# EAGLE library part EPF10K100-P208 (library altera)
EPF10K100 FLEX 10K family
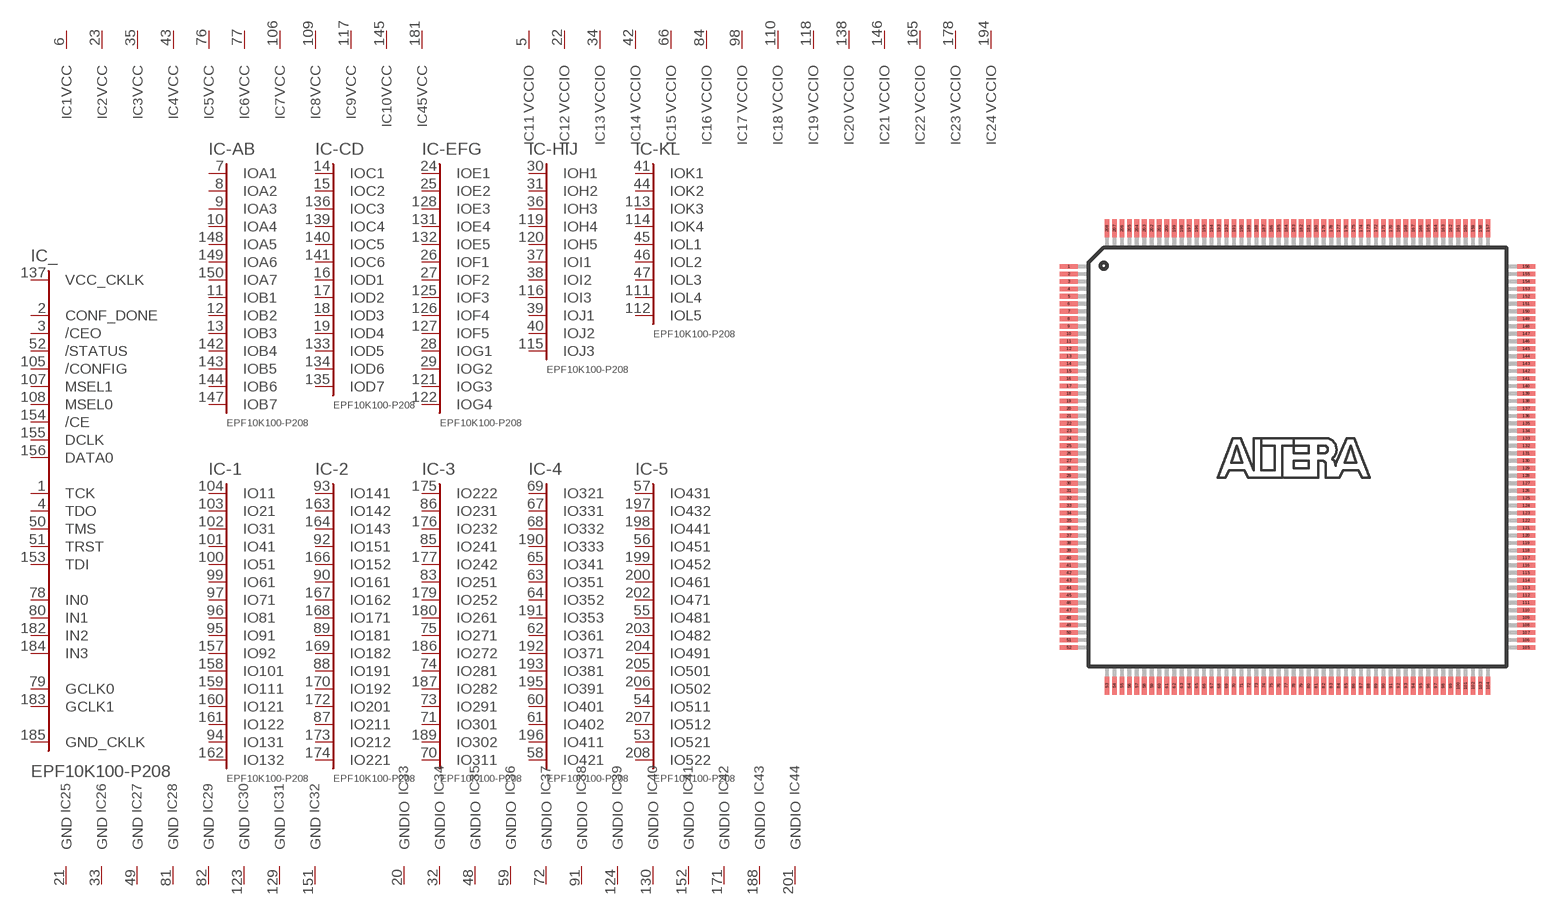
[diagram p43: symbol with the pads of PQFP208; footprint PQFP208]

Designator prefix IC; gates _=100P208C -AB=A7B7 -CD=C6D7 -EFG=E4F4G4 -HIJ=H5I3J3 -KL=K4L5 -1=132-208 -2=221-208 -3=311-208 -4=421-208 -5=522-208 1=VCCINT 2=VCCINT 3=VCCINT 4=VCCINT 5=VCCINT 6=VCCINT 7=VCCINT 8=VCCINT 9=VCCINT 10=VCCINT 11=VCCIO 12=VCCIO 13=VCCIO 14=VCCIO 15=VCCIO 16=VCCIO 17=VCCIO 18=VCCIO 19=VCCIO 20=VCCIO 21=VCCIO 22=VCCIO 23=VCCIO 24=VCCIO 25=GNDINT 26=GNDINT 27=GNDINT 28=GNDINT 29=GNDINT 30=GNDINT 31=GNDINT 32=GNDINT 33=GNDIO 34=GNDIO 35=GNDIO 36=GNDIO 37=GNDIO 38=GNDIO 39=GNDIO 40=GNDIO 41=GNDIO 42=GNDIO 43=GNDIO 44=GNDIO 45=VCCINT

## EPF10K100-P208  [PQFP208]
1  _:TCK
2  _:CONF_DONE  in
3  _:/CEO  in
4  _:TDO
5  11:VCCIO  pwr
6  1:VCC  pwr
7  -AB:IOA1
8  -AB:IOA2
9  -AB:IOA3
10  -AB:IOA4
11  -AB:IOB1
12  -AB:IOB2
13  -AB:IOB3
14  -CD:IOC1
15  -CD:IOC2
16  -CD:IOD1
17  -CD:IOD2
18  -CD:IOD3
19  -CD:IOD4
20  33:GNDIO  pwr
21  25:GND  pwr
22  12:VCCIO  pwr
23  2:VCC  pwr
24  -EFG:IOE1
25  -EFG:IOE2
26  -EFG:IOF1
27  -EFG:IOF2
28  -EFG:IOG1
29  -EFG:IOG2
30  -HIJ:IOH1
31  -HIJ:IOH2
32  34:GNDIO  pwr
33  26:GND  pwr
34  13:VCCIO  pwr
35  3:VCC  pwr
36  -HIJ:IOH3
37  -HIJ:IOI1
38  -HIJ:IOI2
39  -HIJ:IOJ1
40  -HIJ:IOJ2
41  -KL:IOK1
42  14:VCCIO  pwr
43  4:VCC  pwr
44  -KL:IOK2
45  -KL:IOL1
46  -KL:IOL2
47  -KL:IOL3
48  35:GNDIO  pwr
49  27:GND  pwr
50  _:TMS
51  _:TRST
52  _:/STATUS  in
53  -5:IO521
54  -5:IO511
55  -5:IO481
56  -5:IO451
57  -5:IO431
58  -4:IO421
59  36:GNDIO  pwr
60  -4:IO401
61  -4:IO402
62  -4:IO361
63  -4:IO351
64  -4:IO352
65  -4:IO341
66  15:VCCIO  pwr
67  -4:IO331
68  -4:IO332
69  -4:IO321
70  -3:IO311
71  -3:IO301
72  37:GNDIO  pwr
73  -3:IO291
74  -3:IO281
75  -3:IO271
76  5:VCC  pwr
77  6:VCC  pwr
78  _:IN0  in
79  _:GCLK0  in
80  _:IN1  in
81  28:GND  pwr
82  29:GND  pwr
83  -3:IO251
84  16:VCCIO  pwr
85  -3:IO241
86  -3:IO231
87  -2:IO211
88  -2:IO191
89  -2:IO181
90  -2:IO161
91  38:GNDIO  pwr
92  -2:IO151
93  -2:IO141
94  -1:IO131
95  -1:IO91
96  -1:IO81
97  -1:IO71
98  17:VCCIO  pwr
99  -1:IO61
100  -1:IO51
101  -1:IO41
102  -1:IO31
103  -1:IO21
104  -1:IO11
105  _:/CONFIG  in
106  7:VCC  pwr
107  _:MSEL1  in
108  _:MSEL0  in
109  8:VCC  pwr
110  18:VCCIO  pwr
111  -KL:IOL4
112  -KL:IOL5
113  -KL:IOK3
114  -KL:IOK4
115  -HIJ:IOJ3
116  -HIJ:IOI3
117  9:VCC  pwr
118  19:VCCIO  pwr
119  -HIJ:IOH4
120  -HIJ:IOH5
121  -EFG:IOG3
122  -EFG:IOG4
123  30:GND  pwr
124  39:GNDIO  pwr
125  -EFG:IOF3
126  -EFG:IOF4
127  -EFG:IOF5
128  -EFG:IOE3
129  31:GND  pwr
130  40:GNDIO  pwr
131  -EFG:IOE4
132  -EFG:IOE5
133  -CD:IOD5
134  -CD:IOD6
135  -CD:IOD7
136  -CD:IOC3
137  _:VCC_CKLK  pas
138  20:VCCIO  pwr
139  -CD:IOC4
140  -CD:IOC5
141  -CD:IOC6
142  -AB:IOB4
143  -AB:IOB5
144  -AB:IOB6
145  10:VCC  pwr
146  21:VCCIO  pwr
147  -AB:IOB7
148  -AB:IOA5
149  -AB:IOA6
150  -AB:IOA7
151  32:GND  pwr
152  41:GNDIO  pwr
153  _:TDI
154  _:/CE  in
155  _:DCLK  in
156  _:DATA0  in
157  -1:IO92
158  -1:IO101
159  -1:IO111
160  -1:IO121
161  -1:IO122
162  -1:IO132
163  -2:IO142
164  -2:IO143
165  22:VCCIO  pwr
166  -2:IO152
167  -2:IO162
168  -2:IO171
169  -2:IO182
170  -2:IO192
171  42:GNDIO  pwr
172  -2:IO201
173  -2:IO212
174  -2:IO221
175  -3:IO222
176  -3:IO232
177  -3:IO242
178  23:VCCIO  pwr
179  -3:IO252
180  -3:IO261
181  45:VCC  pwr
182  _:IN2  in
183  _:GCLK1  in
184  _:IN3  in
185  _:GND_CKLK  pas
186  -3:IO272
187  -3:IO282
188  43:GNDIO  pwr
189  -3:IO302
190  -4:IO333
191  -4:IO353
192  -4:IO371
193  -4:IO381
194  24:VCCIO  pwr
195  -4:IO391
196  -4:IO411
197  -5:IO432
198  -5:IO441
199  -5:IO452
200  -5:IO461
201  44:GNDIO  pwr
202  -5:IO471
203  -5:IO482
204  -5:IO491
205  -5:IO501
206  -5:IO502
207  -5:IO512
208  -5:IO522

## Footprint PQFP208 (pad centres in mm)
Plastic Quad Flat Pack
smd 1.2 x 0.32: 1 -15.3,12.75; 2 -15.3,12.25; 3 -15.3,11.75; 4 -15.3,11.25; 5 -15.3,10.75; 6 -15.3,10.25; 7 -15.3,9.75; 8 -15.3,9.25; 9 -15.3,8.75; 10 -15.3,8.25; 11 -15.3,7.75; 12 -15.3,7.25; 13 -15.3,6.75; 14 -15.3,6.25; 15 -15.3,5.75; 16 -15.3,5.25; 17 -15.3,4.75; 18 -15.3,4.25; 19 -15.3,3.75; 20 -15.3,3.25; 21 -15.3,2.75; 22 -15.3,2.25; 23 -15.3,1.75; 24 -15.3,1.25; 25 -15.3,0.75; 26 -15.3,0.25; 27 -15.3,-0.25; 28 -15.3,-0.75; 29 -15.3,-1.25; 30 -15.3,-1.75; 31 -15.3,-2.25; 32 -15.3,-2.75; 33 -15.3,-3.25; 34 -15.3,-3.75; 35 -15.3,-4.25; 36 -15.3,-4.75; 37 -15.3,-5.25; 38 -15.3,-5.75; 39 -15.3,-6.25; 40 -15.3,-6.75; 41 -15.3,-7.25; 42 -15.3,-7.75; 43 -15.3,-8.25; 44 -15.3,-8.75; 45 -15.3,-9.25; 46 -15.3,-9.75; 47 -15.3,-10.25; 48 -15.3,-10.75; 49 -15.3,-11.25; 50 -15.3,-11.75; 51 -15.3,-12.25; 52 -15.3,-12.75; 105 15.3,-12.75; 106 15.3,-12.25; 107 15.3,-11.75; 108 15.3,-11.25; 109 15.3,-10.75; 110 15.3,-10.25; 111 15.3,-9.75; 112 15.3,-9.25; 113 15.3,-8.75; 114 15.3,-8.25; 115 15.3,-7.75; 116 15.3,-7.25; 117 15.3,-6.75; 118 15.3,-6.25; 119 15.3,-5.75; 120 15.3,-5.25; 121 15.3,-4.75; 122 15.3,-4.25; 123 15.3,-3.75; 124 15.3,-3.25; 125 15.3,-2.75; 126 15.3,-2.25; 127 15.3,-1.75; 128 15.3,-1.25; 129 15.3,-0.75; 130 15.3,-0.25; 131 15.3,0.25; 132 15.3,0.75; 133 15.3,1.25; 134 15.3,1.75; 135 15.3,2.25; 136 15.3,2.75; 137 15.3,3.25; 138 15.3,3.75; 139 15.3,4.25; 140 15.3,4.75; 141 15.3,5.25; 142 15.3,5.75; 143 15.3,6.25; 144 15.3,6.75; 145 15.3,7.25; 146 15.3,7.75; 147 15.3,8.25; 148 15.3,8.75; 149 15.3,9.25; 150 15.3,9.75; 151 15.3,10.25; 152 15.3,10.75; 153 15.3,11.25; 154 15.3,11.75; 155 15.3,12.25; 156 15.3,12.75
smd 0.32 x 1.2: 53 -12.75,-15.3; 54 -12.25,-15.3; 55 -11.75,-15.3; 56 -11.25,-15.3; 57 -10.75,-15.3; 58 -10.25,-15.3; 59 -9.75,-15.3; 60 -9.25,-15.3; 61 -8.75,-15.3; 62 -8.25,-15.3; 63 -7.75,-15.3; 64 -7.25,-15.3; 65 -6.75,-15.3; 66 -6.25,-15.3; 67 -5.75,-15.3; 68 -5.25,-15.3; 69 -4.75,-15.3; 70 -4.25,-15.3; 71 -3.75,-15.3; 72 -3.25,-15.3; 73 -2.75,-15.3; 74 -2.25,-15.3; 75 -1.75,-15.3; 76 -1.25,-15.3; 77 -0.75,-15.3; 78 -0.25,-15.3; 79 0.25,-15.3; 80 0.75,-15.3; 81 1.25,-15.3; 82 1.75,-15.3; 83 2.25,-15.3; 84 2.75,-15.3; 85 3.25,-15.3; 86 3.75,-15.3; 87 4.25,-15.3; 88 4.75,-15.3; 89 5.25,-15.3; 90 5.75,-15.3; 91 6.25,-15.3; 92 6.75,-15.3; 93 7.25,-15.3; 94 7.75,-15.3; 95 8.25,-15.3; 96 8.75,-15.3; 97 9.25,-15.3; 98 9.75,-15.3; 99 10.25,-15.3; 100 10.75,-15.3; 101 11.25,-15.3; 102 11.75,-15.3; 103 12.25,-15.3; 104 12.75,-15.3; 157 12.75,15.3; 158 12.25,15.3; 159 11.75,15.3; 160 11.25,15.3; 161 10.75,15.3; 162 10.25,15.3; 163 9.75,15.3; 164 9.25,15.3; 165 8.75,15.3; 166 8.25,15.3; 167 7.75,15.3; 168 7.25,15.3; 169 6.75,15.3; 170 6.25,15.3; 171 5.75,15.3; 172 5.25,15.3; 173 4.75,15.3; 174 4.25,15.3; 175 3.75,15.3; 176 3.25,15.3; 177 2.75,15.3; 178 2.25,15.3; 179 1.75,15.3; 180 1.25,15.3; 181 0.75,15.3; 182 0.25,15.3; 183 -0.25,15.3; 184 -0.75,15.3; 185 -1.25,15.3; 186 -1.75,15.3; 187 -2.25,15.3; 188 -2.75,15.3; 189 -3.25,15.3; 190 -3.75,15.3; 191 -4.25,15.3; 192 -4.75,15.3; 193 -5.25,15.3; 194 -5.75,15.3; 195 -6.25,15.3; 196 -6.75,15.3; 197 -7.25,15.3; 198 -7.75,15.3; 199 -8.25,15.3; 200 -8.75,15.3; 201 -9.25,15.3; 202 -9.75,15.3; 203 -10.25,15.3; 204 -10.75,15.3; 205 -11.25,15.3; 206 -11.75,15.3; 207 -12.25,15.3; 208 -12.75,15.3